# Altium footprint library UmbilicalBoard.PcbLib: 12 footprints
Each footprint in its own frame and in the unit in brackets; x right, y up, seen from the top. Pads: shape width x height; smd on the part's side, far side on the other; paste and mask are expansions set on the pad; w line width, h text height; cw(c..) or ccw(c..) is an arc to the next point about the centre after c.
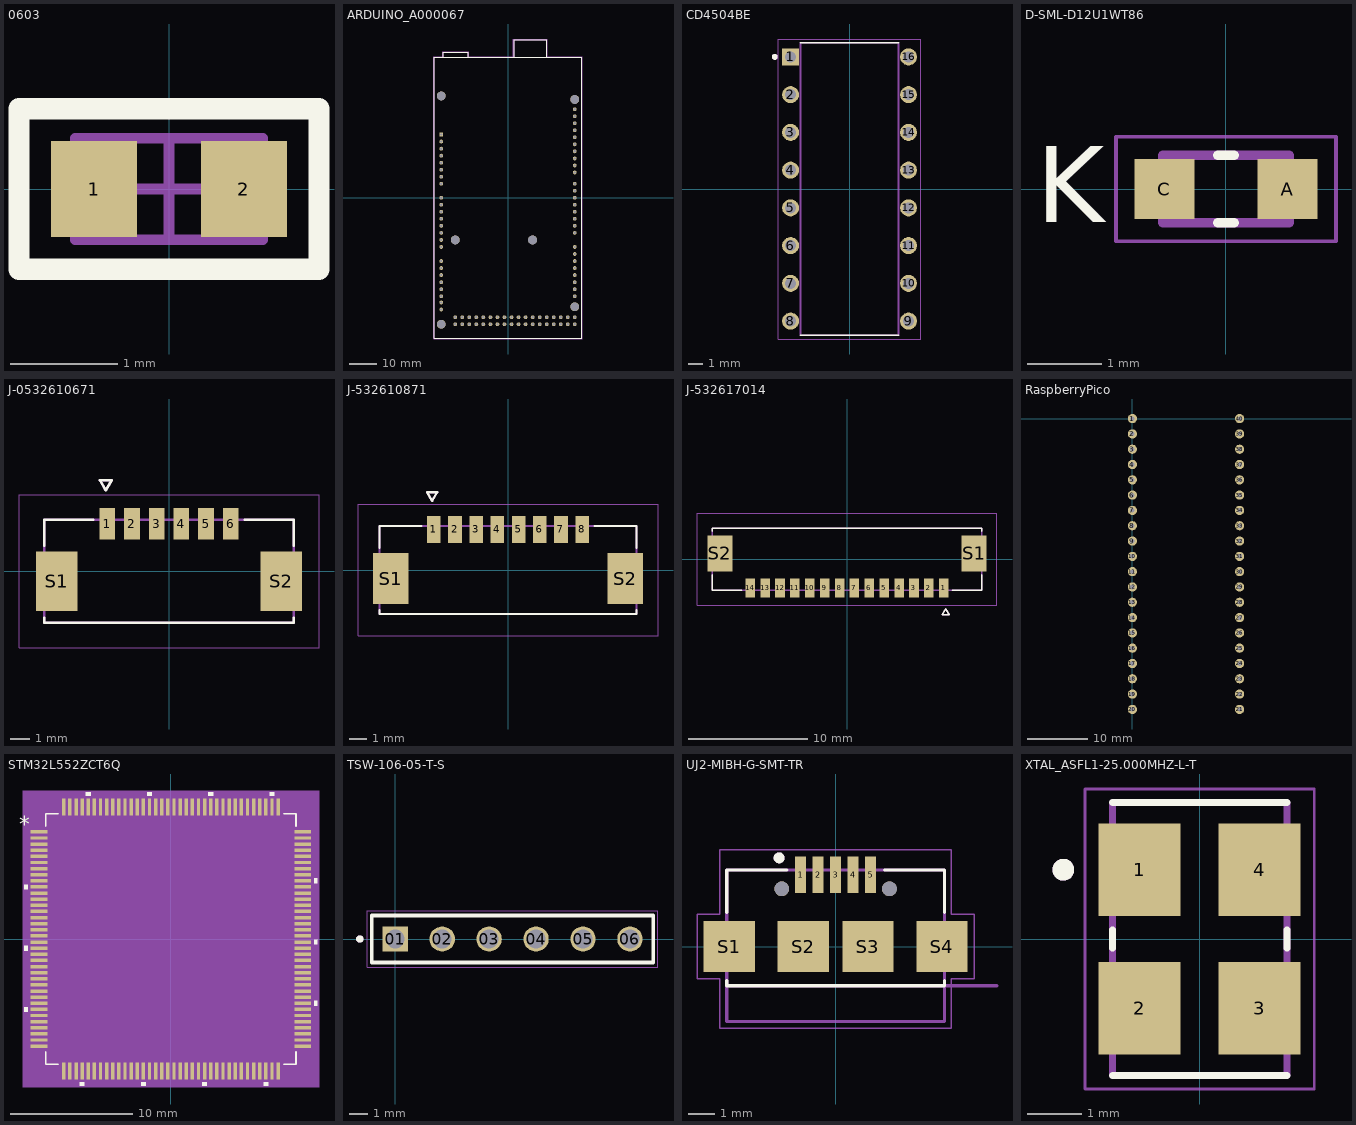
[diagram p0: the footprints below, top view; thin cyan lines are the x and y axes]

## 0603 [mm]
pads (2):
  rect 0.8x0.9 smd: 1(-0.7,0) 2(0.7,0)
Top Overlay:
  lines w0.2: -1.4,-0.75 1.4,-0.75 1.4,0.75 -1.4,0.75 -1.4,-0.75
Mechanical 13:
  lines w0.1: -0.875,-0.475 0.875,-0.475 0.875,0.475 -0.875,0.475 -0.875,-0.475
  text ".Designator" at 0,0 h1
Mechanical 15:
  lines w0.1: -0.475,0 0.475,0 ; 0,-0.475 0,0.475 ; -1.4,-0.75 -1.4,0.75 1.4,0.75 1.4,-0.75 -1.4,-0.75
3D body: height 1.3, standoff 0, extent -0.875,-0.475 0.875,0.475

## ARDUINO_A000067 [mm]
pads (92):
  round 1.358 hole 0.85: 0(24.13,-12.7) 1(24.13,-10.16) 2(24.13,-7.62) 3(24.13,-5.08) 3V3(-24.13,15.24) 4(24.13,-2.54) 5(24.13,0) 5V_1(-24.13,12.7) 5V_2(24.13,-43.18) 5V_3(24.13,-45.72) 6(24.13,2.54) 7(24.13,5.08) 8(24.13,9.144) 9(24.13,11.684) 10(24.13,14.224) 11(24.13,16.764) 12(24.13,19.304) 13(24.13,21.844) 14(24.13,-17.78) 15(24.13,-20.32) 16(24.13,-22.86) 17(24.13,-25.4) 18(24.13,-27.94) 19(24.13,-30.48) 20(24.13,-33.02) 21(24.13,-35.56) 22(21.59,-43.18) 23(21.59,-45.72) 24(19.05,-43.18) 25(19.05,-45.72) 26(16.51,-43.18) 27(16.51,-45.72) 28(13.97,-43.18) 29(13.97,-45.72) 30(11.43,-43.18) 31(11.43,-45.72) 32(8.89,-43.18) 33(8.89,-45.72) 34(6.35,-43.18) 35(6.35,-45.72) 36(3.81,-43.18) 37(3.81,-45.72) 38(1.27,-43.18) 39(1.27,-45.72) 40(-1.27,-43.18) 41(-1.27,-45.72) 42(-3.81,-43.18) 43(-3.81,-45.72) 44(-6.35,-43.18) 45(-6.35,-45.72) 46(-8.89,-43.18) 47(-8.89,-45.72) 48(-11.43,-43.18) 49(-11.43,-45.72) 50(-13.97,-43.18) 51(-13.97,-45.72) 52(-16.51,-43.18) 53(-16.51,-45.72) AD0(-24.13,0) AD1(-24.13,-2.54) AD2(-24.13,-5.08) AD3(-24.13,-7.62) AD4(-24.13,-10.16) AD5(-24.13,-12.7) AD6(-24.13,-15.24) AD7(-24.13,-17.78) AD8(-24.13,-22.86) AD9(-24.13,-25.4) AD10(-24.13,-27.94) AD11(-24.13,-30.48) AD12(-24.13,-33.02) AD13(-24.13,-35.56) AD14(-24.13,-37.846) AD15(-24.13,-40.386) AREF(24.13,26.924) GND1(-24.13,10.16) GND2(-24.13,7.62) GND3(24.13,24.384) GND4(-19.05,-43.18) GND5(-19.05,-45.72) IOREF(-24.13,20.32) RESET(-24.13,17.78) SCL(24.13,32.004) SDA(24.13,29.464) VIN(-24.13,5.08)
  rect 1.358x1.358 hole 0.85: NC(-24.13,22.86)
  round 3.2 hole 3.2 unplated: ""(-24.13,-45.72) ""(-24.13,36.83) ""(-19.05,-15.24) ""(8.89,-15.24) ""(24.13,-39.37) ""(24.13,35.56)
Top Overlay:
  lines w0.127: -23.37,50.8 -23.37,52.61 -14.378,52.61 -14.378,50.8 ; -23.37,50.8 -14.378,50.8 ; -23.37,50.8 -26.67,50.8 -26.67,-50.8 26.67,-50.8 26.67,50.8 14.02,50.8 ; -14.378,50.8 2.22,50.8 ; 2.22,50.8 2.22,57.15 14.02,57.15 14.02,50.8 ; 2.22,50.8 14.02,50.8
Mechanical 13:
  lines w0.127: -23.37,50.8 -23.37,52.61 -14.378,52.61 -14.378,50.8 ; -23.37,50.8 -14.378,50.8 ; -23.37,50.8 -26.67,50.8 -26.67,-50.8 26.67,-50.8 26.67,50.8 14.02,50.8 ; -14.378,50.8 2.22,50.8 ; 2.22,50.8 2.22,57.15 14.02,57.15 14.02,50.8 ; 2.22,50.8 14.02,50.8
Mechanical 15:
  lines w0.05: -26.92,-51.05 -26.92,51.05 -23.62,51.05 -23.62,52.86 -14.128,52.86 -14.128,51.05 1.97,51.05 1.97,57.4 14.27,57.4 14.27,51.05 26.92,51.05 26.92,-51.05 -26.92,-51.05

## CD4504BE [mm]
pads (16):
  rect 1.14x1.14 hole 0.74: 1(-3.97,8.89)
  round 1.14 hole 0.74: 2(-3.97,6.35) 3(-3.97,3.81) 4(-3.97,1.27) 5(-3.97,-1.27) 6(-3.97,-3.81) 7(-3.97,-6.35) 8(-3.97,-8.89) 9(3.97,-8.89) 10(3.97,-6.35) 11(3.97,-3.81) 12(3.97,-1.27) 13(3.97,1.27) 14(3.97,3.81) 15(3.97,6.35) 16(3.97,8.89)
Top Overlay:
  circle w0.2: c-5.035,8.89 r0.1
  lines w0.127: -3.3,-9.845 3.3,-9.845 ; -3.3,9.845 3.3,9.845
Mechanical 13:
  circle w0.2: c-5.035,8.89 r0.1
  lines w0.127: -3.3,-9.845 -3.3,9.845 3.3,9.845 3.3,-9.845 -3.3,-9.845
Mechanical 15:
  lines w0.05: -4.79,-10.095 -4.79,10.095 4.79,10.095 4.79,-10.095 -4.79,-10.095
3D body "step_temp.STEP": height 5.08, standoff -3.17, extent -9.652,-5.461 9.652,5.461

## D-SML-D12U1WT86 [mm]
pads (2):
  rect 0.8x0.8 smd: A(0.825,0) C(-0.825,0)
Top Overlay:
  lines w0.127: -0.11,-0.45 0.11,-0.45 ; -0.11,0.45 0.11,0.45
  text "K" at -2.548,-0.448 h1.02
Mechanical 13:
  lines w0.127: -0.85,-0.45 0.85,-0.45 0.85,0.45 -0.85,0.45 -0.85,-0.45
Mechanical 15:
  lines w0.05: -1.475,-0.7 1.475,-0.7 1.475,0.7 -1.475,0.7 -1.475,-0.7
3D body "SML-D12U1WT86.STEP": height 0.55, standoff 0, extent -0.8,-0.4 0.8,0.4

## J-0532610671 [mm]
pads (8):
  rect 0.8x1.6 smd mask+0: 1(-3.125,2.4) 2(-1.875,2.4) 3(-0.625,2.4) 4(0.625,2.4) 5(1.875,2.4) 6(3.125,2.4)
  rect 2.1x3 smd mask+0: S1(-5.675,-0.5) S2(5.675,-0.5)
Top Overlay:
  lines w0.127: -6.325,-2.35 -6.325,-2.6 6.325,-2.6 6.325,-2.35 ; -6.325,1.3 -6.325,2.6 -3.845,2.6 ; 3.845,2.6 6.325,2.6 6.325,1.3 ; -3.5,4.605 -2.9,4.605 -3.2,4.105 -3.5,4.605
Top Solder:
  region: -2.649,1.524 -3.601,1.524 -3.601,3.276 -2.649,3.276
  region: 6.801,-2.076 4.549,-2.076 4.549,1.076 6.801,1.076
  region: -4.549,-2.076 -6.801,-2.076 -6.801,1.076 -4.549,1.076
  region: -1.399,1.524 -2.351,1.524 -2.351,3.276 -1.399,3.276
  region: -0.149,1.524 -1.101,1.524 -1.101,3.276 -0.149,3.276
  region: 1.101,1.524 0.149,1.524 0.149,3.276 1.101,3.276
  region: 2.351,1.524 1.399,1.524 1.399,3.276 2.351,3.276
  region: 3.601,1.524 2.649,1.524 2.649,3.276 3.601,3.276
Mechanical 13:
  lines w0.127: -6.325,-2.6 6.325,-2.6 6.325,2.6 -6.325,2.6 -6.325,-2.6 ; -3.5,4.605 -2.9,4.605 -3.2,4.105 -3.5,4.605
Mechanical 15:
  lines w0.05: -7.595,-3.87 7.595,-3.87 7.595,3.87 -7.595,3.87 -7.595,-3.87
3D body "532610671--3DModel-STEP-194946.STEP": height 3.38, standoff -0.02, extent -6.325,-2.499 6.325,2.701

## J-532610871 [mm]
pads (10):
  rect 0.8x1.6 smd mask+0: 1(-4.375,2.4) 2(-3.125,2.4) 3(-1.875,2.4) 4(-0.625,2.4) 5(0.625,2.4) 6(1.875,2.4) 7(3.125,2.4) 8(4.375,2.4)
  rect 2.1x3 smd mask+0: S1(-6.925,-0.5) S2(6.925,-0.5)
Top Overlay:
  lines w0.127: -7.575,-2.35 -7.575,-2.6 7.575,-2.6 7.575,-2.35 ; -7.575,1.3 -7.575,2.6 -5.095,2.6 ; 5.095,2.6 7.575,2.6 7.575,1.3 ; -4.77,4.585 -4.17,4.585 -4.47,4.085 -4.77,4.585
Top Solder:
  region: -3.899,1.524 -4.851,1.524 -4.851,3.276 -3.899,3.276
  region: 8.051,-2.076 5.799,-2.076 5.799,1.076 8.051,1.076
  region: -5.799,-2.076 -8.051,-2.076 -8.051,1.076 -5.799,1.076
  region: -2.649,1.524 -3.601,1.524 -3.601,3.276 -2.649,3.276
  region: -1.399,1.524 -2.351,1.524 -2.351,3.276 -1.399,3.276
  region: -0.149,1.524 -1.101,1.524 -1.101,3.276 -0.149,3.276
  region: 1.101,1.524 0.149,1.524 0.149,3.276 1.101,3.276
  region: 2.351,1.524 1.399,1.524 1.399,3.276 2.351,3.276
  region: 3.601,1.524 2.649,1.524 2.649,3.276 3.601,3.276
  region: 4.851,1.524 3.899,1.524 3.899,3.276 4.851,3.276
Mechanical 13:
  lines w0.127: -7.575,-2.6 7.575,-2.6 7.575,2.6 -7.575,2.6 -7.575,-2.6 ; -4.77,4.585 -4.17,4.585 -4.47,4.085 -4.77,4.585
Mechanical 15:
  lines w0.05: -8.845,-3.87 8.845,-3.87 8.845,3.87 -8.845,3.87 -8.845,-3.87
3D body "532610871--3DModel-STEP-269445.STEP": height 3.38, standoff -0.02, extent -7.575,-2.143 7.575,3.057

## J-532617014 [mm]
pads (16):
  rect 0.8x1.6 smd mask+0: 1(8.125,-2.4) 2(6.875,-2.4) 3(5.625,-2.4) 4(4.375,-2.4) 5(3.125,-2.4) 6(1.875,-2.4) 7(0.625,-2.4) 8(-0.625,-2.4) 9(-1.875,-2.4) 10(-3.125,-2.4) 11(-4.375,-2.4) 12(-5.625,-2.4) 13(-6.875,-2.4) 14(-8.125,-2.4)
  rect 2.1x3 smd mask+0: S1(10.675,0.5) S2(-10.675,0.5)
Top Overlay:
  lines w0.127: -11.325,-1.3 -11.325,-2.6 -8.845,-2.6 ; -11.325,2.35 -11.325,2.6 11.325,2.6 11.325,2.35 ; 8.845,-2.6 11.325,-2.6 11.325,-1.3 ; 7.98,-4.652 8.28,-4.152 8.58,-4.652 7.98,-4.652
Top Solder:
  region: -7.649,-3.276 -8.601,-3.276 -8.601,-1.524 -7.649,-1.524
  region: -6.399,-3.276 -7.351,-3.276 -7.351,-1.524 -6.399,-1.524
  region: -5.149,-3.276 -6.101,-3.276 -6.101,-1.524 -5.149,-1.524
  region: -3.899,-3.276 -4.851,-3.276 -4.851,-1.524 -3.899,-1.524
  region: -2.649,-3.276 -3.601,-3.276 -3.601,-1.524 -2.649,-1.524
  region: -1.399,-3.276 -2.351,-3.276 -2.351,-1.524 -1.399,-1.524
  region: -0.149,-3.276 -1.101,-3.276 -1.101,-1.524 -0.149,-1.524
  region: 1.101,-3.276 0.149,-3.276 0.149,-1.524 1.101,-1.524
  region: 2.351,-3.276 1.399,-3.276 1.399,-1.524 2.351,-1.524
  region: 3.601,-3.276 2.649,-3.276 2.649,-1.524 3.601,-1.524
  region: 4.851,-3.276 3.899,-3.276 3.899,-1.524 4.851,-1.524
  region: 6.101,-3.276 5.149,-3.276 5.149,-1.524 6.101,-1.524
  region: 7.351,-3.276 6.399,-3.276 6.399,-1.524 7.351,-1.524
  region: 11.801,-1.076 9.549,-1.076 9.549,2.076 11.801,2.076
  region: -9.549,-1.076 -11.801,-1.076 -11.801,2.076 -9.549,2.076
  region: 8.601,-3.276 7.649,-3.276 7.649,-1.524 8.601,-1.524
Mechanical 13:
  lines w0.127: -11.325,-2.6 -11.325,2.6 11.325,2.6 11.325,-2.6 -11.325,-2.6 ; 7.98,-4.652 8.28,-4.152 8.58,-4.652 7.98,-4.652
Mechanical 15:
  lines w0.05: -12.595,-3.87 12.595,-3.87 12.595,3.87 -12.595,3.87 -12.595,-3.87
3D body "step_temp.STEP": height 3.38, standoff -0.02, extent -11.325,-2.625 11.325,2.575

## RaspberryPico [mil]
pads (40):
  round 60 hole 30: 1(0,0) 2(0,-100) 3(0,-200) 4(0,-300) 5(0,-400) 6(0,-500) 7(0,-600) 8(0,-700) 9(0,-800) 10(0,-900) 11(0,-1000) 12(0,-1100) 13(0,-1200) 14(0,-1300) 15(0,-1400) 16(0,-1500) 17(0,-1600) 18(0,-1700) 19(0,-1800) 20(0,-1900) 21(700,-1900) 22(700,-1800) 23(700,-1700) 24(700,-1600) 25(700,-1500) 26(700,-1400) 27(700,-1300) 28(700,-1200) 29(700,-1100) 30(700,-1000) 31(700,-900) 32(700,-800) 33(700,-700) 34(700,-600) 35(700,-500) 36(700,-400) 37(700,-300) 38(700,-200) 39(700,-100) 40(700,0)
3D body "Pico-R3.step": height 245.28, standoff 98.43, extent -63.39,-1953.94 763.39,105.12

## STM32L552ZCT6Q [mil]
pads (144):
  rect 53.5x11 smd paste+0 mask+0: 1(-424.25,344.49) 2(-424.25,324.8) 3(-424.25,305.12) 4(-424.25,285.43) 5(-424.25,265.75) 6(-424.25,246.06) 7(-424.25,226.38) 8(-424.25,206.69) 9(-424.25,187.01) 10(-424.25,167.32) 11(-424.25,147.64) 12(-424.25,127.95) 13(-424.25,108.27) 14(-424.25,88.58) 15(-424.25,68.9) 16(-424.25,49.21) 17(-424.25,29.53) 18(-424.25,9.84) 19(-424.25,-9.84) 20(-424.25,-29.53) 21(-424.25,-49.21) 22(-424.25,-68.9) 23(-424.25,-88.58) 24(-424.25,-108.27) 25(-424.25,-127.95) 26(-424.25,-147.64) 27(-424.25,-167.32) 28(-424.25,-187.01) 29(-424.25,-206.69) 30(-424.25,-226.38) 31(-424.25,-246.06) 32(-424.25,-265.75) 33(-424.25,-285.43) 34(-424.25,-305.12) 35(-424.25,-324.8) 36(-424.25,-344.49) 73(424.25,-344.49) 74(424.25,-324.8) 75(424.25,-305.12) 76(424.25,-285.43) 77(424.25,-265.75) 78(424.25,-246.06) 79(424.25,-226.38) 80(424.25,-206.69) 81(424.25,-187.01) 82(424.25,-167.32) 83(424.25,-147.64) 84(424.25,-127.95) 85(424.25,-108.27) 86(424.25,-88.58) 87(424.25,-68.9) 88(424.25,-49.21) 89(424.25,-29.53) 90(424.25,-9.84) 91(424.25,9.84) 92(424.25,29.53) 93(424.25,49.21) 94(424.25,68.9) 95(424.25,88.58) 96(424.25,108.27) 97(424.25,127.95) 98(424.25,147.64) 99(424.25,167.32) 100(424.25,187.01) 101(424.25,206.69) 102(424.25,226.38) 103(424.25,246.06) 104(424.25,265.75) 105(424.25,285.43) 106(424.25,305.12) 107(424.25,324.8) 108(424.25,344.49)
  rect 11x53.5 smd paste+0 mask+0: 37(-344.49,-424.25) 38(-324.8,-424.25) 39(-305.12,-424.25) 40(-285.43,-424.25) 41(-265.75,-424.25) 42(-246.06,-424.25) 43(-226.38,-424.25) 44(-206.69,-424.25) 45(-187.01,-424.25) 46(-167.32,-424.25) 47(-147.64,-424.25) 48(-127.95,-424.25) 49(-108.27,-424.25) 50(-88.58,-424.25) 51(-68.9,-424.25) 52(-49.21,-424.25) 53(-29.53,-424.25) 54(-9.84,-424.25) 55(9.84,-424.25) 56(29.53,-424.25) 57(49.21,-424.25) 58(68.9,-424.25) 59(88.58,-424.25) 60(108.27,-424.25) 61(127.95,-424.25) 62(147.64,-424.25) 63(167.32,-424.25) 64(187.01,-424.25) 65(206.69,-424.25) 66(226.38,-424.25) 67(246.06,-424.25) 68(265.75,-424.25) 69(285.43,-424.25) 70(305.12,-424.25) 71(324.8,-424.25) 72(344.49,-424.25) 109(344.49,424.25) 110(324.8,424.25) 111(305.12,424.25) 112(285.43,424.25) 113(265.75,424.25) 114(246.06,424.25) 115(226.38,424.25) 116(206.69,424.25) 117(187.01,424.25) 118(167.32,424.25) 119(147.64,424.25) 120(127.95,424.25) 121(108.27,424.25) 122(88.58,424.25) 123(68.9,424.25) 124(49.21,424.25) 125(29.53,424.25) 126(9.84,424.25) 127(-9.84,424.25) 128(-29.53,424.25) 129(-49.21,424.25) 130(-68.9,424.25) 131(-88.58,424.25) 132(-108.27,424.25) 133(-127.95,424.25) 134(-147.64,424.25) 135(-167.32,424.25) 136(-187.01,424.25) 137(-206.69,424.25) 138(-226.38,424.25) 139(-246.06,424.25) 140(-265.75,424.25) 141(-285.43,424.25) 142(-305.12,424.25) 143(-324.8,424.25) 144(-344.49,424.25)
Top Overlay:
  region: -258.25,461 -273.25,461 -273.25,471 -258.25,471
  region: -61.4,461 -76.4,461 -76.4,471 -61.4,471
  region: 135.45,461 120.45,461 120.45,471 135.45,471
  region: 332.3,461 317.3,461 317.3,471 332.3,471
  region: 461,194.51 471,194.51 471,179.51 461,179.51
  region: 461,-2.34 471,-2.34 471,-17.34 461,-17.34
  region: 461,-199.19 471,-199.19 471,-214.19 461,-214.19
  region: 312.62,-461 297.62,-461 297.62,-471 312.62,-471
  region: 115.77,-461 100.77,-461 100.77,-471 115.77,-471
  region: -81.08,-461 -96.08,-461 -96.08,-471 -81.08,-471
  region: -277.93,-461 -292.93,-461 -292.93,-471 -277.93,-471
  region: -461,-218.88 -471,-218.88 -471,-233.88 -461,-233.88
  region: -461,-22.03 -471,-22.03 -471,-37.03 -461,-37.03
  region: -461,174.82 -471,174.82 -471,159.82 -461,159.82
  lines w6: -402.5,-363.09 -402.5,-402.5 -363.09,-402.5 ; -402.5,363.09 -402.5,402.5 -363.09,402.5 ; 363.09,-402.5 402.5,-402.5 402.5,-363.09 ; 363.09,402.5 402.5,402.5 402.5,363.09
  text "*" at -488.5,344.33 h50
Mechanical 5:
  region: 476,-476 -476,-476 -476,476 476,476
Mechanical 13:
  drawing of 581 lines, arcs and shapes, not listed
  text "*" at -395,329.33 h50
Mechanical 15:
  region: -359.99,-407.5 -407.5,-407.5 -407.5,-359.99 -461,-359.99 -461,359.99 -407.5,359.99 -407.5,407.5 -359.99,407.5 -359.99,461 359.99,461 359.99,407.5 407.5,407.5 407.5,359.99 461,359.99 461,-359.99 407.5,-359.99 407.5,-407.5 359.99,-407.5 359.99,-461 -359.99,-461
  lines w6: -461,-359.99 -461,359.99 -407.5,359.99 -407.5,407.5 -359.99,407.5 -359.99,461 359.99,461 359.99,407.5 407.5,407.5 407.5,359.99 461,359.99 461,-359.99 407.5,-359.99 407.5,-407.5 359.99,-407.5 359.99,-461 -359.99,-461 -359.99,-407.5 -407.5,-407.5 -407.5,-359.99 -461,-359.99
3D body "U_STM32L552ZCT6Q_STM.step": height 63.11, standoff 0, extent -437.01,-437.01 437.01,437.01

## TSW-106-05-T-S [mm] "CONN HEADER VERT 6POS 2.54MM"
pads (6):
  rect 1.37x1.37 hole 1.02: 01(0,0)
  round 1.37 hole 1.02: 02(2.54,0) 03(5.08,0) 04(7.62,0) 05(10.16,0) 06(12.7,0)
Top Overlay:
  circle w0.2: c-1.92,0 r0.1
  lines w0.2: -1.27,-1.27 -1.27,1.27 13.97,1.27 13.97,-1.27 -1.27,-1.27
Mechanical 13:
  circle w0.2: c-1.92,0 r0.1
  lines w0.1: -1.27,-1.27 -1.27,1.27 13.97,1.27 13.97,-1.27 -1.27,-1.27
Mechanical 15:
  lines w0.05: -1.52,-1.52 -1.52,1.52 14.22,1.52 14.22,-1.52 -1.52,-1.52

## UJ2-MIBH-G-SMT-TR [mm]
height 2.95
pads (11):
  rect 0.4x1.35 smd: 1(-1.3,2.675) 2(-0.65,2.675) 3(0,2.675) 4(0.65,2.675) 5(1.3,2.675)
  rect 1.9x1.9 smd: S1(-3.95,0) S2(-1.2,0) S3(1.2,0) S4(3.95,0)
  round 0.55 hole 0.55 unplated: ""(-2,2.15) ""(2,2.15)
Top Overlay:
  circle w0.2: c-2.1,3.3 r0.1
  lines w0.127: -4.05,-1.27 -4.05,-1.45 4.05,-1.45 4.05,-1.27 ; -4.05,1.27 -4.05,2.85 -1.82,2.85 ; 1.82,2.85 4.05,2.85 4.05,1.27
Mechanical 13:
  circle w0.2: c-2.1,3.3 r0.1
  lines w0.127: 6,-1.45 -4.05,-1.45 ; -4.05,-1.45 -4.05,-2.78 4.05,-2.78 4.05,2.85 -4.05,2.85 -4.05,-1.45
  text "PCB EDGE" at 5.325,-1.325 h0.61
Mechanical 15:
  lines w0.05: -5.15,-1.2 -5.15,1.2 -4.3,1.2 -4.3,3.6 4.3,3.6 4.3,1.2 5.15,1.2 5.15,-1.2 4.3,-1.2 4.3,-3.03 -4.3,-3.03 -4.3,-1.2 -5.15,-1.2

## XTAL_ASFL1-25.000MHZ-L-T [mm]
height 1.3
pads (4):
  rect 1.5x1.7 smd: 1(-1.1,1.27) 2(-1.1,-1.27) 3(1.1,-1.27) 4(1.1,1.27)
Top Overlay:
  circle w0.2: c-2.5,1.27 r0.1
  lines w0.127: -1.6,-2.5 1.6,-2.5 ; -1.6,-0.17 -1.6,0.17 ; -1.6,2.5 1.6,2.5 ; 1.6,-0.17 1.6,0.17
Mechanical 13:
  circle w0.2: c-2.5,1.27 r0.1
  lines w0.127: -1.6,-2.5 1.6,-2.5 1.6,2.5 -1.6,2.5 -1.6,-2.5
Mechanical 15:
  lines w0.05: -2.1,-2.75 2.1,-2.75 2.1,2.75 -2.1,2.75 -2.1,-2.75